# EAGLE library part TSW-111-02-S-S (library con-samtec)
THROUGH-HOLE .025" SQ POST HEADER Source: Samtec TSW.pdf
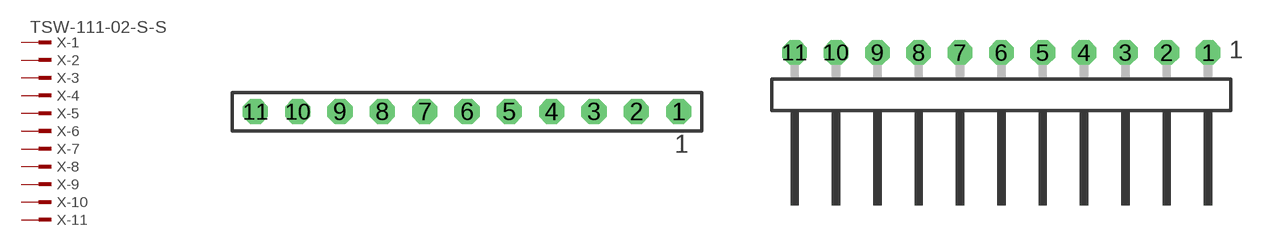
[diagram p235: symbol with the pads of TSW-111-02-S-S; footprints TSW-111-02-S-S, TSW-111-02-S-S-RA]

Designator prefix X; gates -1=MPINV -2=MPIN -3=MPIN -4=MPIN -5=MPIN -6=MPIN -7=MPIN -8=MPIN -9=MPIN -10=MPIN -11=MPIN

## TSW-111-02-S-S  [TSW-111-02-S-S]
1  -1:1  pas
2  -2:1  pas
3  -3:1  pas
4  -4:1  pas
5  -5:1  pas
6  -6:1  pas
7  -7:1  pas
8  -8:1  pas
9  -9:1  pas
10  -10:1  pas
11  -11:1  pas

## TSW-111-02-S-S-RA  [TSW-111-02-S-S-RA]
Pads as for TSW-111-02-S-S

## Footprint TSW-111-02-S-S (pad centres in mm)
THROUGH-HOLE .025" SQ POST HEADER Source: Samtec TSW.pdf
drill 1 pad 1.5 octagon: 1 12.7,0; 2 10.16,0; 3 7.62,0; 4 5.08,0; 5 2.54,0; 6 0,0; 7 -2.54,0; 8 -5.08,0; 9 -7.62,0; 10 -10.16,0; 11 -12.7,0

## Footprint TSW-111-02-S-S-RA (pad centres in mm)
THROUGH-HOLE .025" SQ POST HEADER Source: Samtec TSW.pdf
drill 1 pad 1.5 octagon: 1 12.7,1.524; 2 10.16,1.524; 3 7.62,1.524; 4 5.08,1.524; 5 2.54,1.524; 6 0,1.524; 7 -2.54,1.524; 8 -5.08,1.524; 9 -7.62,1.524; 10 -10.16,1.524; 11 -12.7,1.524